# Altium integrated library Vishay Roederstein Electrolytic Snap-In Pins Capacitor.IntLib: 936 symbols (part 11 of 16)
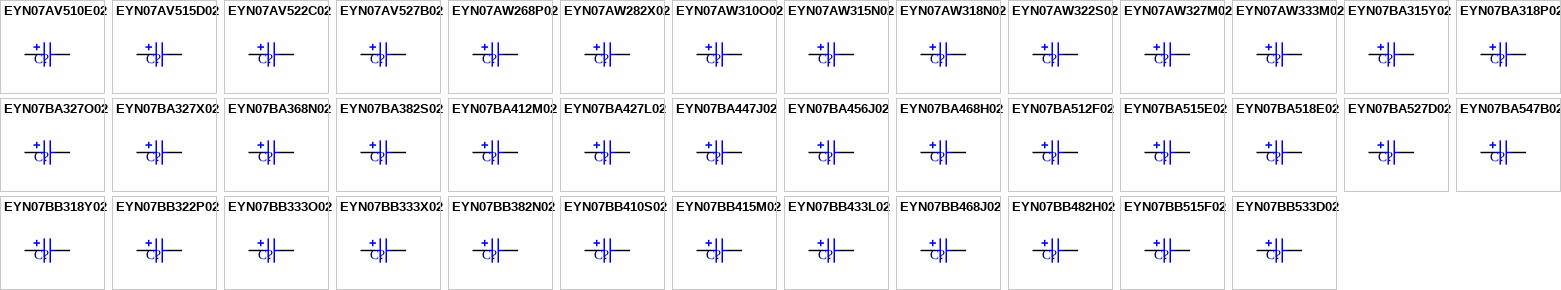
[diagram p33: symbols EYN07AV510E02 to EYN07BB533D02]

## EYN07AV515D02
designator C?
Aluminum Electrolytic Capacitor, Power Capacitor Style EYN, Snap-in 6mm Solder Pins: 15000uF, 16V; PCB_Layout: Complies with Manufacturer's Recommendation.; DrillSize: Nominal, Complies with Manufacturer's Recommendation.; Published: 19-Mar-2004; DatasheetDocument: 4-Feb-2002; PackageReference: CAPPRS10-25X30; Publisher: Altium Limited; ComponentLink1Description: Manufacturer Link; ComponentLink1URL: http://www.vishay.com/; ComponentLink2Description: Datasheet; ComponentLink2URL: http://www.vishay.com/docs/25137/eyn.pdf; Value: 15000uF
footprint CAPPRS10-25X30 (Capacitor, Electrolytic, Radial, Snap-In Pins; Body 25 x 30 mm (Dia.xH typ); Pin Spacing 10 mm (typ))
simulation model CAP (Capacitor)
signal-integrity model EYN07AV515D02
pins: 1, 2
1 alternate drawing of the same symbol

## EYN07AV522C02
designator C?
Aluminum Electrolytic Capacitor, Power Capacitor Style EYN, Snap-in 6mm Solder Pins: 22000uF, 10V; PCB_Layout: Complies with Manufacturer's Recommendation.; DrillSize: Nominal, Complies with Manufacturer's Recommendation.; Published: 19-Mar-2004; DatasheetDocument: 4-Feb-2002; PackageReference: CAPPRS10-25X30; Publisher: Altium Limited; ComponentLink1Description: Manufacturer Link; ComponentLink1URL: http://www.vishay.com/; ComponentLink2Description: Datasheet; ComponentLink2URL: http://www.vishay.com/docs/25137/eyn.pdf; Value: 22000uF
footprint CAPPRS10-25X30 (Capacitor, Electrolytic, Radial, Snap-In Pins; Body 25 x 30 mm (Dia.xH typ); Pin Spacing 10 mm (typ))
simulation model CAP (Capacitor)
signal-integrity model EYN07AV522C02
pins: 1, 2
1 alternate drawing of the same symbol

## EYN07AV527B02
designator C?
Aluminum Electrolytic Capacitor, Power Capacitor Style EYN, Snap-in 6mm Solder Pins: 27000uF, 6.3V; PCB_Layout: Complies with Manufacturer's Recommendation.; DrillSize: Nominal, Complies with Manufacturer's Recommendation.; Published: 19-Mar-2004; DatasheetDocument: 4-Feb-2002; PackageReference: CAPPRS10-25X30; Publisher: Altium Limited; ComponentLink1Description: Manufacturer Link; ComponentLink1URL: http://www.vishay.com/; ComponentLink2Description: Datasheet; ComponentLink2URL: http://www.vishay.com/docs/25137/eyn.pdf; Value: 27000uF
footprint CAPPRS10-25X30 (Capacitor, Electrolytic, Radial, Snap-In Pins; Body 25 x 30 mm (Dia.xH typ); Pin Spacing 10 mm (typ))
simulation model CAP (Capacitor)
signal-integrity model EYN07AV527B02
pins: 1, 2
1 alternate drawing of the same symbol

## EYN07AW268P02
designator C?
Aluminum Electrolytic Capacitor, Power Capacitor Style EYN, Snap-in 6mm Solder Pins: 68uF, 450V; PCB_Layout: Complies with Manufacturer's Recommendation.; DrillSize: Nominal, Complies with Manufacturer's Recommendation.; Published: 19-Mar-2004; DatasheetDocument: 4-Feb-2002; PackageReference: CAPPRS10-25X20; Publisher: Altium Limited; ComponentLink1Description: Manufacturer Link; ComponentLink1URL: http://www.vishay.com/; ComponentLink2Description: Datasheet; ComponentLink2URL: http://www.vishay.com/docs/25137/eyn.pdf; Value: 68uF
footprint CAPPRS10-25X20 (Capacitor, Electrolytic, Radial, Snap-In Pins; Body 25 x 20 mm (Dia.xH typ); Pin Spacing 10 mm (typ))
simulation model CAP (Capacitor)
signal-integrity model EYN07AW268P02
pins: 1, 2
1 alternate drawing of the same symbol

## EYN07AW282X02
designator C?
Aluminum Electrolytic Capacitor, Power Capacitor Style EYN, Snap-in 6mm Solder Pins: 82uF, 400V; PCB_Layout: Complies with Manufacturer's Recommendation.; DrillSize: Nominal, Complies with Manufacturer's Recommendation.; Published: 19-Mar-2004; DatasheetDocument: 4-Feb-2002; PackageReference: CAPPRS10-25X20; Publisher: Altium Limited; ComponentLink1Description: Manufacturer Link; ComponentLink1URL: http://www.vishay.com/; ComponentLink2Description: Datasheet; ComponentLink2URL: http://www.vishay.com/docs/25137/eyn.pdf; Value: 82uF
footprint CAPPRS10-25X20 (Capacitor, Electrolytic, Radial, Snap-In Pins; Body 25 x 20 mm (Dia.xH typ); Pin Spacing 10 mm (typ))
simulation model CAP (Capacitor)
signal-integrity model EYN07AW282X02
pins: 1, 2
1 alternate drawing of the same symbol

## EYN07AW310O02
designator C?
Aluminum Electrolytic Capacitor, Power Capacitor Style EYN, Snap-in 6mm Solder Pins: 100uF, 350V; PCB_Layout: Complies with Manufacturer's Recommendation.; DrillSize: Nominal, Complies with Manufacturer's Recommendation.; Published: 19-Mar-2004; DatasheetDocument: 4-Feb-2002; PackageReference: CAPPRS10-25X20; Publisher: Altium Limited; ComponentLink1Description: Manufacturer Link; ComponentLink1URL: http://www.vishay.com/; ComponentLink2Description: Datasheet; ComponentLink2URL: http://www.vishay.com/docs/25137/eyn.pdf; Value: 100uF
footprint CAPPRS10-25X20 (Capacitor, Electrolytic, Radial, Snap-In Pins; Body 25 x 20 mm (Dia.xH typ); Pin Spacing 10 mm (typ))
simulation model CAP (Capacitor)
signal-integrity model EYN07AW310O02
pins: 1, 2
1 alternate drawing of the same symbol

## EYN07AW315N02
designator C?
Aluminum Electrolytic Capacitor, Power Capacitor Style EYN, Snap-in 6mm Solder Pins: 150uF, 250V; PCB_Layout: Complies with Manufacturer's Recommendation.; DrillSize: Nominal, Complies with Manufacturer's Recommendation.; Published: 19-Mar-2004; DatasheetDocument: 4-Feb-2002; PackageReference: CAPPRS10-25X20; Publisher: Altium Limited; ComponentLink1Description: Manufacturer Link; ComponentLink1URL: http://www.vishay.com/; ComponentLink2Description: Datasheet; ComponentLink2URL: http://www.vishay.com/docs/25137/eyn.pdf; Value: 150uF
footprint CAPPRS10-25X20 (Capacitor, Electrolytic, Radial, Snap-In Pins; Body 25 x 20 mm (Dia.xH typ); Pin Spacing 10 mm (typ))
simulation model CAP (Capacitor)
signal-integrity model EYN07AW315N02
pins: 1, 2
1 alternate drawing of the same symbol

## EYN07AW318N02
designator C?
Aluminum Electrolytic Capacitor, Power Capacitor Style EYN, Snap-in 6mm Solder Pins: 180uF, 250V; PCB_Layout: Complies with Manufacturer's Recommendation.; DrillSize: Nominal, Complies with Manufacturer's Recommendation.; Published: 19-Mar-2004; DatasheetDocument: 4-Feb-2002; PackageReference: CAPPRS10-25X20; Publisher: Altium Limited; ComponentLink1Description: Manufacturer Link; ComponentLink1URL: http://www.vishay.com/; ComponentLink2Description: Datasheet; ComponentLink2URL: http://www.vishay.com/docs/25137/eyn.pdf; Value: 180uF
footprint CAPPRS10-25X20 (Capacitor, Electrolytic, Radial, Snap-In Pins; Body 25 x 20 mm (Dia.xH typ); Pin Spacing 10 mm (typ))
simulation model CAP (Capacitor)
signal-integrity model EYN07AW318N02
pins: 1, 2
1 alternate drawing of the same symbol

## EYN07AW322S02
designator C?
Aluminum Electrolytic Capacitor, Power Capacitor Style EYN, Snap-in 6mm Solder Pins: 220uF, 200V; PCB_Layout: Complies with Manufacturer's Recommendation.; DrillSize: Nominal, Complies with Manufacturer's Recommendation.; Published: 19-Mar-2004; DatasheetDocument: 4-Feb-2002; PackageReference: CAPPRS10-25X20; Publisher: Altium Limited; ComponentLink1Description: Manufacturer Link; ComponentLink1URL: http://www.vishay.com/; ComponentLink2Description: Datasheet; ComponentLink2URL: http://www.vishay.com/docs/25137/eyn.pdf; Value: 220uF
footprint CAPPRS10-25X20 (Capacitor, Electrolytic, Radial, Snap-In Pins; Body 25 x 20 mm (Dia.xH typ); Pin Spacing 10 mm (typ))
simulation model CAP (Capacitor)
signal-integrity model EYN07AW322S02
pins: 1, 2
1 alternate drawing of the same symbol

## EYN07AW327M02
designator C?
Aluminum Electrolytic Capacitor, Power Capacitor Style EYN, Snap-in 6mm Solder Pins: 270uF, 160V; PCB_Layout: Complies with Manufacturer's Recommendation.; DrillSize: Nominal, Complies with Manufacturer's Recommendation.; Published: 19-Mar-2004; DatasheetDocument: 4-Feb-2002; PackageReference: CAPPRS10-25X20; Publisher: Altium Limited; ComponentLink1Description: Manufacturer Link; ComponentLink1URL: http://www.vishay.com/; ComponentLink2Description: Datasheet; ComponentLink2URL: http://www.vishay.com/docs/25137/eyn.pdf; Value: 270uF
footprint CAPPRS10-25X20 (Capacitor, Electrolytic, Radial, Snap-In Pins; Body 25 x 20 mm (Dia.xH typ); Pin Spacing 10 mm (typ))
simulation model CAP (Capacitor)
signal-integrity model EYN07AW327M02
pins: 1, 2
1 alternate drawing of the same symbol

## EYN07AW333M02
designator C?
Aluminum Electrolytic Capacitor, Power Capacitor Style EYN, Snap-in 6mm Solder Pins: 330uF, 160V; PCB_Layout: Complies with Manufacturer's Recommendation.; DrillSize: Nominal, Complies with Manufacturer's Recommendation.; Published: 19-Mar-2004; DatasheetDocument: 4-Feb-2002; PackageReference: CAPPRS10-25X20; Publisher: Altium Limited; ComponentLink1Description: Manufacturer Link; ComponentLink1URL: http://www.vishay.com/; ComponentLink2Description: Datasheet; ComponentLink2URL: http://www.vishay.com/docs/25137/eyn.pdf; Value: 330uF
footprint CAPPRS10-25X20 (Capacitor, Electrolytic, Radial, Snap-In Pins; Body 25 x 20 mm (Dia.xH typ); Pin Spacing 10 mm (typ))
simulation model CAP (Capacitor)
signal-integrity model EYN07AW333M02
pins: 1, 2
1 alternate drawing of the same symbol

## EYN07BA315Y02
designator C?
Aluminum Electrolytic Capacitor, Power Capacitor Style EYN, Snap-in 6mm Solder Pins: 150uF, 500V; PCB_Layout: Complies with Manufacturer's Recommendation.; DrillSize: Nominal, Complies with Manufacturer's Recommendation.; Published: 19-Mar-2004; DatasheetDocument: 4-Feb-2002; PackageReference: CAPPRS10-30X35; Publisher: Altium Limited; ComponentLink1Description: Manufacturer Link; ComponentLink1URL: http://www.vishay.com/; ComponentLink2Description: Datasheet; ComponentLink2URL: http://www.vishay.com/docs/25137/eyn.pdf; Value: 150uF
footprint CAPPRS10-30X35 (Capacitor, Electrolytic, Radial, Snap-In Pins; Body 30 x 35 mm (Dia.xH typ); Pin Spacing 10 mm (typ))
simulation model CAP (Capacitor)
signal-integrity model EYN07BA315Y02
pins: 1, 2
1 alternate drawing of the same symbol

## EYN07BA318P02
designator C?
Aluminum Electrolytic Capacitor, Power Capacitor Style EYN, Snap-in 6mm Solder Pins: 180uF, 450V; PCB_Layout: Complies with Manufacturer's Recommendation.; DrillSize: Nominal, Complies with Manufacturer's Recommendation.; Published: 19-Mar-2004; DatasheetDocument: 4-Feb-2002; PackageReference: CAPPRS10-30X35; Publisher: Altium Limited; ComponentLink1Description: Manufacturer Link; ComponentLink1URL: http://www.vishay.com/; ComponentLink2Description: Datasheet; ComponentLink2URL: http://www.vishay.com/docs/25137/eyn.pdf; Value: 180uF
footprint CAPPRS10-30X35 (Capacitor, Electrolytic, Radial, Snap-In Pins; Body 30 x 35 mm (Dia.xH typ); Pin Spacing 10 mm (typ))
simulation model CAP (Capacitor)
signal-integrity model EYN07BA318P02
pins: 1, 2
1 alternate drawing of the same symbol

## EYN07BA327O02
designator C?
Aluminum Electrolytic Capacitor, Power Capacitor Style EYN, Snap-in 6mm Solder Pins: 270uF, 350V; PCB_Layout: Complies with Manufacturer's Recommendation.; DrillSize: Nominal, Complies with Manufacturer's Recommendation.; Published: 19-Mar-2004; DatasheetDocument: 4-Feb-2002; PackageReference: CAPPRS10-30X35; Publisher: Altium Limited; ComponentLink1Description: Manufacturer Link; ComponentLink1URL: http://www.vishay.com/; ComponentLink2Description: Datasheet; ComponentLink2URL: http://www.vishay.com/docs/25137/eyn.pdf; Value: 270uF
footprint CAPPRS10-30X35 (Capacitor, Electrolytic, Radial, Snap-In Pins; Body 30 x 35 mm (Dia.xH typ); Pin Spacing 10 mm (typ))
simulation model CAP (Capacitor)
signal-integrity model EYN07BA327O02
pins: 1, 2
1 alternate drawing of the same symbol

## EYN07BA327X02
designator C?
Aluminum Electrolytic Capacitor, Power Capacitor Style EYN, Snap-in 6mm Solder Pins: 270uF, 400V; PCB_Layout: Complies with Manufacturer's Recommendation.; DrillSize: Nominal, Complies with Manufacturer's Recommendation.; Published: 19-Mar-2004; DatasheetDocument: 4-Feb-2002; PackageReference: CAPPRS10-30X35; Publisher: Altium Limited; ComponentLink1Description: Manufacturer Link; ComponentLink1URL: http://www.vishay.com/; ComponentLink2Description: Datasheet; ComponentLink2URL: http://www.vishay.com/docs/25137/eyn.pdf; Value: 270uF
footprint CAPPRS10-30X35 (Capacitor, Electrolytic, Radial, Snap-In Pins; Body 30 x 35 mm (Dia.xH typ); Pin Spacing 10 mm (typ))
simulation model CAP (Capacitor)
signal-integrity model EYN07BA327X02
pins: 1, 2
1 alternate drawing of the same symbol

## EYN07BA368N02
designator C?
Aluminum Electrolytic Capacitor, Power Capacitor Style EYN, Snap-in 6mm Solder Pins: 680uF, 250V; PCB_Layout: Complies with Manufacturer's Recommendation.; DrillSize: Nominal, Complies with Manufacturer's Recommendation.; Published: 19-Mar-2004; DatasheetDocument: 4-Feb-2002; PackageReference: CAPPRS10-30X35; Publisher: Altium Limited; ComponentLink1Description: Manufacturer Link; ComponentLink1URL: http://www.vishay.com/; ComponentLink2Description: Datasheet; ComponentLink2URL: http://www.vishay.com/docs/25137/eyn.pdf; Value: 680uF
footprint CAPPRS10-30X35 (Capacitor, Electrolytic, Radial, Snap-In Pins; Body 30 x 35 mm (Dia.xH typ); Pin Spacing 10 mm (typ))
simulation model CAP (Capacitor)
signal-integrity model EYN07BA368N02
pins: 1, 2
1 alternate drawing of the same symbol

## EYN07BA382S02
designator C?
Aluminum Electrolytic Capacitor, Power Capacitor Style EYN, Snap-in 6mm Solder Pins: 820uF, 200V; PCB_Layout: Complies with Manufacturer's Recommendation.; DrillSize: Nominal, Complies with Manufacturer's Recommendation.; Published: 19-Mar-2004; DatasheetDocument: 4-Feb-2002; PackageReference: CAPPRS10-30X35; Publisher: Altium Limited; ComponentLink1Description: Manufacturer Link; ComponentLink1URL: http://www.vishay.com/; ComponentLink2Description: Datasheet; ComponentLink2URL: http://www.vishay.com/docs/25137/eyn.pdf; Value: 820uF
footprint CAPPRS10-30X35 (Capacitor, Electrolytic, Radial, Snap-In Pins; Body 30 x 35 mm (Dia.xH typ); Pin Spacing 10 mm (typ))
simulation model CAP (Capacitor)
signal-integrity model EYN07BA382S02
pins: 1, 2
1 alternate drawing of the same symbol

## EYN07BA412M02
designator C?
Aluminum Electrolytic Capacitor, Power Capacitor Style EYN, Snap-in 6mm Solder Pins: 1200uF, 160V; PCB_Layout: Complies with Manufacturer's Recommendation.; DrillSize: Nominal, Complies with Manufacturer's Recommendation.; Published: 19-Mar-2004; DatasheetDocument: 4-Feb-2002; PackageReference: CAPPRS10-30X35; Publisher: Altium Limited; ComponentLink1Description: Manufacturer Link; ComponentLink1URL: http://www.vishay.com/; ComponentLink2Description: Datasheet; ComponentLink2URL: http://www.vishay.com/docs/25137/eyn.pdf; Value: 1200uF
footprint CAPPRS10-30X35 (Capacitor, Electrolytic, Radial, Snap-In Pins; Body 30 x 35 mm (Dia.xH typ); Pin Spacing 10 mm (typ))
simulation model CAP (Capacitor)
signal-integrity model EYN07BA412M02
pins: 1, 2
1 alternate drawing of the same symbol

## EYN07BA427L02
designator C?
Aluminum Electrolytic Capacitor, Power Capacitor Style EYN, Snap-in 6mm Solder Pins: 2700uF, 100V; PCB_Layout: Complies with Manufacturer's Recommendation.; DrillSize: Nominal, Complies with Manufacturer's Recommendation.; Published: 19-Mar-2004; DatasheetDocument: 4-Feb-2002; PackageReference: CAPPRS10-30X35; Publisher: Altium Limited; ComponentLink1Description: Manufacturer Link; ComponentLink1URL: http://www.vishay.com/; ComponentLink2Description: Datasheet; ComponentLink2URL: http://www.vishay.com/docs/25137/eyn.pdf; Value: 2700uF
footprint CAPPRS10-30X35 (Capacitor, Electrolytic, Radial, Snap-In Pins; Body 30 x 35 mm (Dia.xH typ); Pin Spacing 10 mm (typ))
simulation model CAP (Capacitor)
signal-integrity model EYN07BA427L02
pins: 1, 2
1 alternate drawing of the same symbol

## EYN07BA447J02
designator C?
Aluminum Electrolytic Capacitor, Power Capacitor Style EYN, Snap-in 6mm Solder Pins: 4700uF, 63V; PCB_Layout: Complies with Manufacturer's Recommendation.; DrillSize: Nominal, Complies with Manufacturer's Recommendation.; Published: 19-Mar-2004; DatasheetDocument: 4-Feb-2002; PackageReference: CAPPRS10-30X35; Publisher: Altium Limited; ComponentLink1Description: Manufacturer Link; ComponentLink1URL: http://www.vishay.com/; ComponentLink2Description: Datasheet; ComponentLink2URL: http://www.vishay.com/docs/25137/eyn.pdf; Value: 4700uF
footprint CAPPRS10-30X35 (Capacitor, Electrolytic, Radial, Snap-In Pins; Body 30 x 35 mm (Dia.xH typ); Pin Spacing 10 mm (typ))
simulation model CAP (Capacitor)
signal-integrity model EYN07BA447J02
pins: 1, 2
1 alternate drawing of the same symbol

## EYN07BA456J02
designator C?
Aluminum Electrolytic Capacitor, Power Capacitor Style EYN, Snap-in 6mm Solder Pins: 5600uF, 63V; PCB_Layout: Complies with Manufacturer's Recommendation.; DrillSize: Nominal, Complies with Manufacturer's Recommendation.; Published: 19-Mar-2004; DatasheetDocument: 4-Feb-2002; PackageReference: CAPPRS10-30X35; Publisher: Altium Limited; ComponentLink1Description: Manufacturer Link; ComponentLink1URL: http://www.vishay.com/; ComponentLink2Description: Datasheet; ComponentLink2URL: http://www.vishay.com/docs/25137/eyn.pdf; Value: 5600uF
footprint CAPPRS10-30X35 (Capacitor, Electrolytic, Radial, Snap-In Pins; Body 30 x 35 mm (Dia.xH typ); Pin Spacing 10 mm (typ))
simulation model CAP (Capacitor)
signal-integrity model EYN07BA456J02
pins: 1, 2
1 alternate drawing of the same symbol

## EYN07BA468H02
designator C?
Aluminum Electrolytic Capacitor, Power Capacitor Style EYN, Snap-in 6mm Solder Pins: 6800uF, 50V; PCB_Layout: Complies with Manufacturer's Recommendation.; DrillSize: Nominal, Complies with Manufacturer's Recommendation.; Published: 19-Mar-2004; DatasheetDocument: 4-Feb-2002; PackageReference: CAPPRS10-30X35; Publisher: Altium Limited; ComponentLink1Description: Manufacturer Link; ComponentLink1URL: http://www.vishay.com/; ComponentLink2Description: Datasheet; ComponentLink2URL: http://www.vishay.com/docs/25137/eyn.pdf; Value: 6800uF
footprint CAPPRS10-30X35 (Capacitor, Electrolytic, Radial, Snap-In Pins; Body 30 x 35 mm (Dia.xH typ); Pin Spacing 10 mm (typ))
simulation model CAP (Capacitor)
signal-integrity model EYN07BA468H02
pins: 1, 2
1 alternate drawing of the same symbol

## EYN07BA512F02
designator C?
Aluminum Electrolytic Capacitor, Power Capacitor Style EYN, Snap-in 6mm Solder Pins: 12000uF, 35V; PCB_Layout: Complies with Manufacturer's Recommendation.; DrillSize: Nominal, Complies with Manufacturer's Recommendation.; Published: 19-Mar-2004; DatasheetDocument: 4-Feb-2002; PackageReference: CAPPRS10-30X35; Publisher: Altium Limited; ComponentLink1Description: Manufacturer Link; ComponentLink1URL: http://www.vishay.com/; ComponentLink2Description: Datasheet; ComponentLink2URL: http://www.vishay.com/docs/25137/eyn.pdf; Value: 12000uF
footprint CAPPRS10-30X35 (Capacitor, Electrolytic, Radial, Snap-In Pins; Body 30 x 35 mm (Dia.xH typ); Pin Spacing 10 mm (typ))
simulation model CAP (Capacitor)
signal-integrity model EYN07BA512F02
pins: 1, 2
1 alternate drawing of the same symbol

## EYN07BA515E02
designator C?
Aluminum Electrolytic Capacitor, Power Capacitor Style EYN, Snap-in 6mm Solder Pins: 15000uF, 25V; PCB_Layout: Complies with Manufacturer's Recommendation.; DrillSize: Nominal, Complies with Manufacturer's Recommendation.; Published: 19-Mar-2004; DatasheetDocument: 4-Feb-2002; PackageReference: CAPPRS10-30X35; Publisher: Altium Limited; ComponentLink1Description: Manufacturer Link; ComponentLink1URL: http://www.vishay.com/; ComponentLink2Description: Datasheet; ComponentLink2URL: http://www.vishay.com/docs/25137/eyn.pdf; Value: 15000uF
footprint CAPPRS10-30X35 (Capacitor, Electrolytic, Radial, Snap-In Pins; Body 30 x 35 mm (Dia.xH typ); Pin Spacing 10 mm (typ))
simulation model CAP (Capacitor)
signal-integrity model EYN07BA515E02
pins: 1, 2
1 alternate drawing of the same symbol

## EYN07BA518E02
designator C?
Aluminum Electrolytic Capacitor, Power Capacitor Style EYN, Snap-in 6mm Solder Pins: 18000uF, 25V; PCB_Layout: Complies with Manufacturer's Recommendation.; DrillSize: Nominal, Complies with Manufacturer's Recommendation.; Published: 19-Mar-2004; DatasheetDocument: 4-Feb-2002; PackageReference: CAPPRS10-30X35; Publisher: Altium Limited; ComponentLink1Description: Manufacturer Link; ComponentLink1URL: http://www.vishay.com/; ComponentLink2Description: Datasheet; ComponentLink2URL: http://www.vishay.com/docs/25137/eyn.pdf; Value: 18000uF
footprint CAPPRS10-30X35 (Capacitor, Electrolytic, Radial, Snap-In Pins; Body 30 x 35 mm (Dia.xH typ); Pin Spacing 10 mm (typ))
simulation model CAP (Capacitor)
signal-integrity model EYN07BA518E02
pins: 1, 2
1 alternate drawing of the same symbol

## EYN07BA527D02
designator C?
Aluminum Electrolytic Capacitor, Power Capacitor Style EYN, Snap-in 6mm Solder Pins: 27000uF, 16V; PCB_Layout: Complies with Manufacturer's Recommendation.; DrillSize: Nominal, Complies with Manufacturer's Recommendation.; Published: 19-Mar-2004; DatasheetDocument: 4-Feb-2002; PackageReference: CAPPRS10-30X35; Publisher: Altium Limited; ComponentLink1Description: Manufacturer Link; ComponentLink1URL: http://www.vishay.com/; ComponentLink2Description: Datasheet; ComponentLink2URL: http://www.vishay.com/docs/25137/eyn.pdf; Value: 27000uF
footprint CAPPRS10-30X35 (Capacitor, Electrolytic, Radial, Snap-In Pins; Body 30 x 35 mm (Dia.xH typ); Pin Spacing 10 mm (typ))
simulation model CAP (Capacitor)
signal-integrity model EYN07BA527D02
pins: 1, 2
1 alternate drawing of the same symbol

## EYN07BA547B02
designator C?
Aluminum Electrolytic Capacitor, Power Capacitor Style EYN, Snap-in 6mm Solder Pins: 47000uF, 6.3V; PCB_Layout: Complies with Manufacturer's Recommendation.; DrillSize: Nominal, Complies with Manufacturer's Recommendation.; Published: 19-Mar-2004; DatasheetDocument: 4-Feb-2002; PackageReference: CAPPRS10-30X35; Publisher: Altium Limited; ComponentLink1Description: Manufacturer Link; ComponentLink1URL: http://www.vishay.com/; ComponentLink2Description: Datasheet; ComponentLink2URL: http://www.vishay.com/docs/25137/eyn.pdf; Value: 47000uF
footprint CAPPRS10-30X35 (Capacitor, Electrolytic, Radial, Snap-In Pins; Body 30 x 35 mm (Dia.xH typ); Pin Spacing 10 mm (typ))
simulation model CAP (Capacitor)
signal-integrity model EYN07BA547B02
pins: 1, 2
1 alternate drawing of the same symbol

## EYN07BB318Y02
designator C?
Aluminum Electrolytic Capacitor, Power Capacitor Style EYN, Snap-in 6mm Solder Pins: 180uF, 500V; PCB_Layout: Complies with Manufacturer's Recommendation.; DrillSize: Nominal, Complies with Manufacturer's Recommendation.; Published: 19-Mar-2004; DatasheetDocument: 4-Feb-2002; PackageReference: CAPPRS10-30X40; Publisher: Altium Limited; ComponentLink1Description: Manufacturer Link; ComponentLink1URL: http://www.vishay.com/; ComponentLink2Description: Datasheet; ComponentLink2URL: http://www.vishay.com/docs/25137/eyn.pdf; Value: 180uF
footprint CAPPRS10-30X40 (Capacitor, Electrolytic, Radial, Snap-In Pins; Body 30 x 40 mm (Dia.xH typ); Pin Spacing 10 mm (typ))
simulation model CAP (Capacitor)
signal-integrity model EYN07BB318Y02
pins: 1, 2
1 alternate drawing of the same symbol

## EYN07BB322P02
designator C?
Aluminum Electrolytic Capacitor, Power Capacitor Style EYN, Snap-in 6mm Solder Pins: 220uF, 450V; PCB_Layout: Complies with Manufacturer's Recommendation.; DrillSize: Nominal, Complies with Manufacturer's Recommendation.; Published: 19-Mar-2004; DatasheetDocument: 4-Feb-2002; PackageReference: CAPPRS10-30X40; Publisher: Altium Limited; ComponentLink1Description: Manufacturer Link; ComponentLink1URL: http://www.vishay.com/; ComponentLink2Description: Datasheet; ComponentLink2URL: http://www.vishay.com/docs/25137/eyn.pdf; Value: 220uF
footprint CAPPRS10-30X40 (Capacitor, Electrolytic, Radial, Snap-In Pins; Body 30 x 40 mm (Dia.xH typ); Pin Spacing 10 mm (typ))
simulation model CAP (Capacitor)
signal-integrity model EYN07BB322P02
pins: 1, 2
1 alternate drawing of the same symbol

## EYN07BB333O02
designator C?
Aluminum Electrolytic Capacitor, Power Capacitor Style EYN, Snap-in 6mm Solder Pins: 330uF, 350V; PCB_Layout: Complies with Manufacturer's Recommendation.; DrillSize: Nominal, Complies with Manufacturer's Recommendation.; Published: 19-Mar-2004; DatasheetDocument: 4-Feb-2002; PackageReference: CAPPRS10-30X40; Publisher: Altium Limited; ComponentLink1Description: Manufacturer Link; ComponentLink1URL: http://www.vishay.com/; ComponentLink2Description: Datasheet; ComponentLink2URL: http://www.vishay.com/docs/25137/eyn.pdf; Value: 330uF
footprint CAPPRS10-30X40 (Capacitor, Electrolytic, Radial, Snap-In Pins; Body 30 x 40 mm (Dia.xH typ); Pin Spacing 10 mm (typ))
simulation model CAP (Capacitor)
signal-integrity model EYN07BB333O02
pins: 1, 2
1 alternate drawing of the same symbol

## EYN07BB333X02
designator C?
Aluminum Electrolytic Capacitor, Power Capacitor Style EYN, Snap-in 6mm Solder Pins: 330uF, 400V; PCB_Layout: Complies with Manufacturer's Recommendation.; DrillSize: Nominal, Complies with Manufacturer's Recommendation.; Published: 19-Mar-2004; DatasheetDocument: 4-Feb-2002; PackageReference: CAPPRS10-30X40; Publisher: Altium Limited; ComponentLink1Description: Manufacturer Link; ComponentLink1URL: http://www.vishay.com/; ComponentLink2Description: Datasheet; ComponentLink2URL: http://www.vishay.com/docs/25137/eyn.pdf; Value: 330uF
footprint CAPPRS10-30X40 (Capacitor, Electrolytic, Radial, Snap-In Pins; Body 30 x 40 mm (Dia.xH typ); Pin Spacing 10 mm (typ))
simulation model CAP (Capacitor)
signal-integrity model EYN07BB333X02
pins: 1, 2
1 alternate drawing of the same symbol

## EYN07BB382N02
designator C?
Aluminum Electrolytic Capacitor, Power Capacitor Style EYN, Snap-in 6mm Solder Pins: 820uF, 250V; PCB_Layout: Complies with Manufacturer's Recommendation.; DrillSize: Nominal, Complies with Manufacturer's Recommendation.; Published: 19-Mar-2004; DatasheetDocument: 4-Feb-2002; PackageReference: CAPPRS10-30X40; Publisher: Altium Limited; ComponentLink1Description: Manufacturer Link; ComponentLink1URL: http://www.vishay.com/; ComponentLink2Description: Datasheet; ComponentLink2URL: http://www.vishay.com/docs/25137/eyn.pdf; Value: 820uF
footprint CAPPRS10-30X40 (Capacitor, Electrolytic, Radial, Snap-In Pins; Body 30 x 40 mm (Dia.xH typ); Pin Spacing 10 mm (typ))
simulation model CAP (Capacitor)
signal-integrity model EYN07BB382N02
pins: 1, 2
1 alternate drawing of the same symbol

## EYN07BB410S02
designator C?
Aluminum Electrolytic Capacitor, Power Capacitor Style EYN, Snap-in 6mm Solder Pins: 1000uF, 200V; PCB_Layout: Complies with Manufacturer's Recommendation.; DrillSize: Nominal, Complies with Manufacturer's Recommendation.; Published: 19-Mar-2004; DatasheetDocument: 4-Feb-2002; PackageReference: CAPPRS10-30X40; Publisher: Altium Limited; ComponentLink1Description: Manufacturer Link; ComponentLink1URL: http://www.vishay.com/; ComponentLink2Description: Datasheet; ComponentLink2URL: http://www.vishay.com/docs/25137/eyn.pdf; Value: 1000uF
footprint CAPPRS10-30X40 (Capacitor, Electrolytic, Radial, Snap-In Pins; Body 30 x 40 mm (Dia.xH typ); Pin Spacing 10 mm (typ))
simulation model CAP (Capacitor)
signal-integrity model EYN07BB410S02
pins: 1, 2
1 alternate drawing of the same symbol

## EYN07BB415M02
designator C?
Aluminum Electrolytic Capacitor, Power Capacitor Style EYN, Snap-in 6mm Solder Pins: 1500uF, 160V; PCB_Layout: Complies with Manufacturer's Recommendation.; DrillSize: Nominal, Complies with Manufacturer's Recommendation.; Published: 19-Mar-2004; DatasheetDocument: 4-Feb-2002; PackageReference: CAPPRS10-30X40; Publisher: Altium Limited; ComponentLink1Description: Manufacturer Link; ComponentLink1URL: http://www.vishay.com/; ComponentLink2Description: Datasheet; ComponentLink2URL: http://www.vishay.com/docs/25137/eyn.pdf; Value: 1500uF
footprint CAPPRS10-30X40 (Capacitor, Electrolytic, Radial, Snap-In Pins; Body 30 x 40 mm (Dia.xH typ); Pin Spacing 10 mm (typ))
simulation model CAP (Capacitor)
signal-integrity model EYN07BB415M02
pins: 1, 2
1 alternate drawing of the same symbol

## EYN07BB433L02
designator C?
Aluminum Electrolytic Capacitor, Power Capacitor Style EYN, Snap-in 6mm Solder Pins: 3300uF, 100V; PCB_Layout: Complies with Manufacturer's Recommendation.; DrillSize: Nominal, Complies with Manufacturer's Recommendation.; Published: 19-Mar-2004; DatasheetDocument: 4-Feb-2002; PackageReference: CAPPRS10-30X40; Publisher: Altium Limited; ComponentLink1Description: Manufacturer Link; ComponentLink1URL: http://www.vishay.com/; ComponentLink2Description: Datasheet; ComponentLink2URL: http://www.vishay.com/docs/25137/eyn.pdf; Value: 3300uF
footprint CAPPRS10-30X40 (Capacitor, Electrolytic, Radial, Snap-In Pins; Body 30 x 40 mm (Dia.xH typ); Pin Spacing 10 mm (typ))
simulation model CAP (Capacitor)
signal-integrity model EYN07BB433L02
pins: 1, 2
1 alternate drawing of the same symbol

## EYN07BB468J02
designator C?
Aluminum Electrolytic Capacitor, Power Capacitor Style EYN, Snap-in 6mm Solder Pins: 6800uF, 63V; PCB_Layout: Complies with Manufacturer's Recommendation.; DrillSize: Nominal, Complies with Manufacturer's Recommendation.; Published: 19-Mar-2004; DatasheetDocument: 4-Feb-2002; PackageReference: CAPPRS10-30X40; Publisher: Altium Limited; ComponentLink1Description: Manufacturer Link; ComponentLink1URL: http://www.vishay.com/; ComponentLink2Description: Datasheet; ComponentLink2URL: http://www.vishay.com/docs/25137/eyn.pdf; Value: 6800uF
footprint CAPPRS10-30X40 (Capacitor, Electrolytic, Radial, Snap-In Pins; Body 30 x 40 mm (Dia.xH typ); Pin Spacing 10 mm (typ))
simulation model CAP (Capacitor)
signal-integrity model EYN07BB468J02
pins: 1, 2
1 alternate drawing of the same symbol

## EYN07BB482H02
designator C?
Aluminum Electrolytic Capacitor, Power Capacitor Style EYN, Snap-in 6mm Solder Pins: 8200uF, 50V; PCB_Layout: Complies with Manufacturer's Recommendation.; DrillSize: Nominal, Complies with Manufacturer's Recommendation.; Published: 19-Mar-2004; DatasheetDocument: 4-Feb-2002; PackageReference: CAPPRS10-30X40; Publisher: Altium Limited; ComponentLink1Description: Manufacturer Link; ComponentLink1URL: http://www.vishay.com/; ComponentLink2Description: Datasheet; ComponentLink2URL: http://www.vishay.com/docs/25137/eyn.pdf; Value: 8200uF
footprint CAPPRS10-30X40 (Capacitor, Electrolytic, Radial, Snap-In Pins; Body 30 x 40 mm (Dia.xH typ); Pin Spacing 10 mm (typ))
simulation model CAP (Capacitor)
signal-integrity model EYN07BB482H02
pins: 1, 2
1 alternate drawing of the same symbol

## EYN07BB515F02
designator C?
Aluminum Electrolytic Capacitor, Power Capacitor Style EYN, Snap-in 6mm Solder Pins: 15000uF, 35V; PCB_Layout: Complies with Manufacturer's Recommendation.; DrillSize: Nominal, Complies with Manufacturer's Recommendation.; Published: 19-Mar-2004; DatasheetDocument: 4-Feb-2002; PackageReference: CAPPRS10-30X40; Publisher: Altium Limited; ComponentLink1Description: Manufacturer Link; ComponentLink1URL: http://www.vishay.com/; ComponentLink2Description: Datasheet; ComponentLink2URL: http://www.vishay.com/docs/25137/eyn.pdf; Value: 15000uF
footprint CAPPRS10-30X40 (Capacitor, Electrolytic, Radial, Snap-In Pins; Body 30 x 40 mm (Dia.xH typ); Pin Spacing 10 mm (typ))
simulation model CAP (Capacitor)
signal-integrity model EYN07BB515F02
pins: 1, 2
1 alternate drawing of the same symbol

## EYN07BB533D02
designator C?
Aluminum Electrolytic Capacitor, Power Capacitor Style EYN, Snap-in 6mm Solder Pins: 33000uF, 16V; PCB_Layout: Complies with Manufacturer's Recommendation.; DrillSize: Nominal, Complies with Manufacturer's Recommendation.; Published: 19-Mar-2004; DatasheetDocument: 4-Feb-2002; PackageReference: CAPPRS10-30X40; Publisher: Altium Limited; ComponentLink1Description: Manufacturer Link; ComponentLink1URL: http://www.vishay.com/; ComponentLink2Description: Datasheet; ComponentLink2URL: http://www.vishay.com/docs/25137/eyn.pdf; Value: 33000uF
footprint CAPPRS10-30X40 (Capacitor, Electrolytic, Radial, Snap-In Pins; Body 30 x 40 mm (Dia.xH typ); Pin Spacing 10 mm (typ))
simulation model CAP (Capacitor)
signal-integrity model EYN07BB533D02
pins: 1, 2
1 alternate drawing of the same symbol

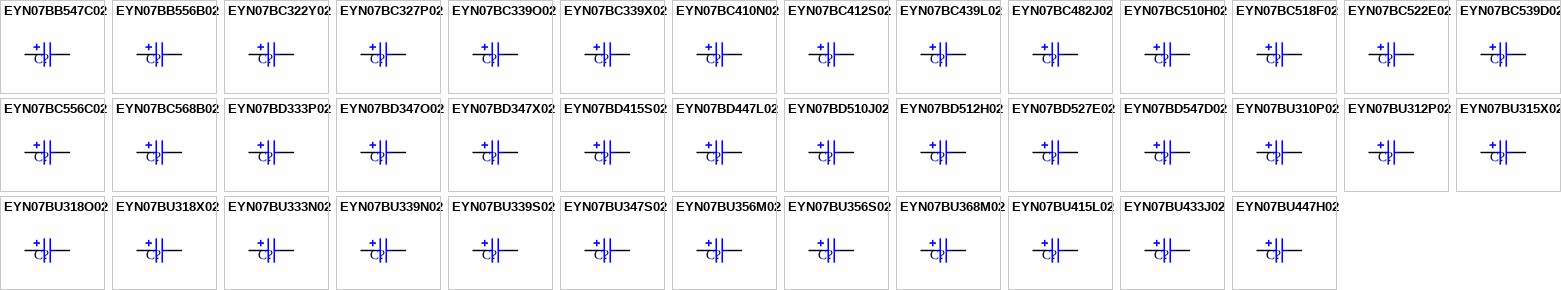
[diagram p16: symbols EYN07BB547C02 to EYN07BU447H02]

## EYN07BB547C02
designator C?
Aluminum Electrolytic Capacitor, Power Capacitor Style EYN, Snap-in 6mm Solder Pins: 47000uF, 10V; PCB_Layout: Complies with Manufacturer's Recommendation.; DrillSize: Nominal, Complies with Manufacturer's Recommendation.; Published: 19-Mar-2004; DatasheetDocument: 4-Feb-2002; PackageReference: CAPPRS10-30X40; Publisher: Altium Limited; ComponentLink1Description: Manufacturer Link; ComponentLink1URL: http://www.vishay.com/; ComponentLink2Description: Datasheet; ComponentLink2URL: http://www.vishay.com/docs/25137/eyn.pdf; Value: 47000uF
footprint CAPPRS10-30X40 (Capacitor, Electrolytic, Radial, Snap-In Pins; Body 30 x 40 mm (Dia.xH typ); Pin Spacing 10 mm (typ))
simulation model CAP (Capacitor)
signal-integrity model EYN07BB547C02
pins: 1, 2
1 alternate drawing of the same symbol

## EYN07BB556B02
designator C?
Aluminum Electrolytic Capacitor, Power Capacitor Style EYN, Snap-in 6mm Solder Pins: 56000uF, 6.3V; PCB_Layout: Complies with Manufacturer's Recommendation.; DrillSize: Nominal, Complies with Manufacturer's Recommendation.; Published: 19-Mar-2004; DatasheetDocument: 4-Feb-2002; PackageReference: CAPPRS10-30X40; Publisher: Altium Limited; ComponentLink1Description: Manufacturer Link; ComponentLink1URL: http://www.vishay.com/; ComponentLink2Description: Datasheet; ComponentLink2URL: http://www.vishay.com/docs/25137/eyn.pdf; Value: 56000uF
footprint CAPPRS10-30X40 (Capacitor, Electrolytic, Radial, Snap-In Pins; Body 30 x 40 mm (Dia.xH typ); Pin Spacing 10 mm (typ))
simulation model CAP (Capacitor)
signal-integrity model EYN07BB556B02
pins: 1, 2
1 alternate drawing of the same symbol

## EYN07BC322Y02
designator C?
Aluminum Electrolytic Capacitor, Power Capacitor Style EYN, Snap-in 6mm Solder Pins: 220uF, 500V; PCB_Layout: Complies with Manufacturer's Recommendation.; DrillSize: Nominal, Complies with Manufacturer's Recommendation.; Published: 19-Mar-2004; DatasheetDocument: 4-Feb-2002; PackageReference: CAPPRS10-30X45; Publisher: Altium Limited; ComponentLink1Description: Manufacturer Link; ComponentLink1URL: http://www.vishay.com/; ComponentLink2Description: Datasheet; ComponentLink2URL: http://www.vishay.com/docs/25137/eyn.pdf; Value: 220uF
footprint CAPPRS10-30X45 (Capacitor, Electrolytic, Radial, Snap-In Pins; Body 30 x 45 mm (Dia.xH typ); Pin Spacing 10 mm (typ))
simulation model CAP (Capacitor)
signal-integrity model EYN07BC322Y02
pins: 1, 2
1 alternate drawing of the same symbol

## EYN07BC327P02
designator C?
Aluminum Electrolytic Capacitor, Power Capacitor Style EYN, Snap-in 6mm Solder Pins: 270uF, 450V; PCB_Layout: Complies with Manufacturer's Recommendation.; DrillSize: Nominal, Complies with Manufacturer's Recommendation.; Published: 19-Mar-2004; DatasheetDocument: 4-Feb-2002; PackageReference: CAPPRS10-30X45; Publisher: Altium Limited; ComponentLink1Description: Manufacturer Link; ComponentLink1URL: http://www.vishay.com/; ComponentLink2Description: Datasheet; ComponentLink2URL: http://www.vishay.com/docs/25137/eyn.pdf; Value: 270uF
footprint CAPPRS10-30X45 (Capacitor, Electrolytic, Radial, Snap-In Pins; Body 30 x 45 mm (Dia.xH typ); Pin Spacing 10 mm (typ))
simulation model CAP (Capacitor)
signal-integrity model EYN07BC327P02
pins: 1, 2
1 alternate drawing of the same symbol

## EYN07BC339O02
designator C?
Aluminum Electrolytic Capacitor, Power Capacitor Style EYN, Snap-in 6mm Solder Pins: 390uF, 350V; PCB_Layout: Complies with Manufacturer's Recommendation.; DrillSize: Nominal, Complies with Manufacturer's Recommendation.; Published: 19-Mar-2004; DatasheetDocument: 4-Feb-2002; PackageReference: CAPPRS10-30X45; Publisher: Altium Limited; ComponentLink1Description: Manufacturer Link; ComponentLink1URL: http://www.vishay.com/; ComponentLink2Description: Datasheet; ComponentLink2URL: http://www.vishay.com/docs/25137/eyn.pdf; Value: 390uF
footprint CAPPRS10-30X45 (Capacitor, Electrolytic, Radial, Snap-In Pins; Body 30 x 45 mm (Dia.xH typ); Pin Spacing 10 mm (typ))
simulation model CAP (Capacitor)
signal-integrity model EYN07BC339O02
pins: 1, 2
1 alternate drawing of the same symbol

## EYN07BC339X02
designator C?
Aluminum Electrolytic Capacitor, Power Capacitor Style EYN, Snap-in 6mm Solder Pins: 390uF, 400V; PCB_Layout: Complies with Manufacturer's Recommendation.; DrillSize: Nominal, Complies with Manufacturer's Recommendation.; Published: 19-Mar-2004; DatasheetDocument: 4-Feb-2002; PackageReference: CAPPRS10-30X45; Publisher: Altium Limited; ComponentLink1Description: Manufacturer Link; ComponentLink1URL: http://www.vishay.com/; ComponentLink2Description: Datasheet; ComponentLink2URL: http://www.vishay.com/docs/25137/eyn.pdf; Value: 390uF
footprint CAPPRS10-30X45 (Capacitor, Electrolytic, Radial, Snap-In Pins; Body 30 x 45 mm (Dia.xH typ); Pin Spacing 10 mm (typ))
simulation model CAP (Capacitor)
signal-integrity model EYN07BC339X02
pins: 1, 2
1 alternate drawing of the same symbol

## EYN07BC410N02
designator C?
Aluminum Electrolytic Capacitor, Power Capacitor Style EYN, Snap-in 6mm Solder Pins: 1000uF, 250V; PCB_Layout: Complies with Manufacturer's Recommendation.; DrillSize: Nominal, Complies with Manufacturer's Recommendation.; Published: 19-Mar-2004; DatasheetDocument: 4-Feb-2002; PackageReference: CAPPRS10-30X45; Publisher: Altium Limited; ComponentLink1Description: Manufacturer Link; ComponentLink1URL: http://www.vishay.com/; ComponentLink2Description: Datasheet; ComponentLink2URL: http://www.vishay.com/docs/25137/eyn.pdf; Value: 1000uF
footprint CAPPRS10-30X45 (Capacitor, Electrolytic, Radial, Snap-In Pins; Body 30 x 45 mm (Dia.xH typ); Pin Spacing 10 mm (typ))
simulation model CAP (Capacitor)
signal-integrity model EYN07BC410N02
pins: 1, 2
1 alternate drawing of the same symbol

## EYN07BC412S02
designator C?
Aluminum Electrolytic Capacitor, Power Capacitor Style EYN, Snap-in 6mm Solder Pins: 1200uF, 200V; PCB_Layout: Complies with Manufacturer's Recommendation.; DrillSize: Nominal, Complies with Manufacturer's Recommendation.; Published: 19-Mar-2004; DatasheetDocument: 4-Feb-2002; PackageReference: CAPPRS10-30X45; Publisher: Altium Limited; ComponentLink1Description: Manufacturer Link; ComponentLink1URL: http://www.vishay.com/; ComponentLink2Description: Datasheet; ComponentLink2URL: http://www.vishay.com/docs/25137/eyn.pdf; Value: 1200uF
footprint CAPPRS10-30X45 (Capacitor, Electrolytic, Radial, Snap-In Pins; Body 30 x 45 mm (Dia.xH typ); Pin Spacing 10 mm (typ))
simulation model CAP (Capacitor)
signal-integrity model EYN07BC412S02
pins: 1, 2
1 alternate drawing of the same symbol

## EYN07BC439L02
designator C?
Aluminum Electrolytic Capacitor, Power Capacitor Style EYN, Snap-in 6mm Solder Pins: 3900uF, 100V; PCB_Layout: Complies with Manufacturer's Recommendation.; DrillSize: Nominal, Complies with Manufacturer's Recommendation.; Published: 19-Mar-2004; DatasheetDocument: 4-Feb-2002; PackageReference: CAPPRS10-30X45; Publisher: Altium Limited; ComponentLink1Description: Manufacturer Link; ComponentLink1URL: http://www.vishay.com/; ComponentLink2Description: Datasheet; ComponentLink2URL: http://www.vishay.com/docs/25137/eyn.pdf; Value: 3900uF
footprint CAPPRS10-30X45 (Capacitor, Electrolytic, Radial, Snap-In Pins; Body 30 x 45 mm (Dia.xH typ); Pin Spacing 10 mm (typ))
simulation model CAP (Capacitor)
signal-integrity model EYN07BC439L02
pins: 1, 2
1 alternate drawing of the same symbol

## EYN07BC482J02
designator C?
Aluminum Electrolytic Capacitor, Power Capacitor Style EYN, Snap-in 6mm Solder Pins: 8200uF, 63V; PCB_Layout: Complies with Manufacturer's Recommendation.; DrillSize: Nominal, Complies with Manufacturer's Recommendation.; Published: 19-Mar-2004; DatasheetDocument: 4-Feb-2002; PackageReference: CAPPRS10-30X45; Publisher: Altium Limited; ComponentLink1Description: Manufacturer Link; ComponentLink1URL: http://www.vishay.com/; ComponentLink2Description: Datasheet; ComponentLink2URL: http://www.vishay.com/docs/25137/eyn.pdf; Value: 8200uF
footprint CAPPRS10-30X45 (Capacitor, Electrolytic, Radial, Snap-In Pins; Body 30 x 45 mm (Dia.xH typ); Pin Spacing 10 mm (typ))
simulation model CAP (Capacitor)
signal-integrity model EYN07BC482J02
pins: 1, 2
1 alternate drawing of the same symbol

## EYN07BC510H02
designator C?
Aluminum Electrolytic Capacitor, Power Capacitor Style EYN, Snap-in 6mm Solder Pins: 10000uF, 50V; PCB_Layout: Complies with Manufacturer's Recommendation.; DrillSize: Nominal, Complies with Manufacturer's Recommendation.; Published: 19-Mar-2004; DatasheetDocument: 4-Feb-2002; PackageReference: CAPPRS10-30X45; Publisher: Altium Limited; ComponentLink1Description: Manufacturer Link; ComponentLink1URL: http://www.vishay.com/; ComponentLink2Description: Datasheet; ComponentLink2URL: http://www.vishay.com/docs/25137/eyn.pdf; Value: 10000uF
footprint CAPPRS10-30X45 (Capacitor, Electrolytic, Radial, Snap-In Pins; Body 30 x 45 mm (Dia.xH typ); Pin Spacing 10 mm (typ))
simulation model CAP (Capacitor)
signal-integrity model EYN07BC510H02
pins: 1, 2
1 alternate drawing of the same symbol

## EYN07BC518F02
designator C?
Aluminum Electrolytic Capacitor, Power Capacitor Style EYN, Snap-in 6mm Solder Pins: 18000uF, 35V; PCB_Layout: Complies with Manufacturer's Recommendation.; DrillSize: Nominal, Complies with Manufacturer's Recommendation.; Published: 19-Mar-2004; DatasheetDocument: 4-Feb-2002; PackageReference: CAPPRS10-30X45; Publisher: Altium Limited; ComponentLink1Description: Manufacturer Link; ComponentLink1URL: http://www.vishay.com/; ComponentLink2Description: Datasheet; ComponentLink2URL: http://www.vishay.com/docs/25137/eyn.pdf; Value: 18000uF
footprint CAPPRS10-30X45 (Capacitor, Electrolytic, Radial, Snap-In Pins; Body 30 x 45 mm (Dia.xH typ); Pin Spacing 10 mm (typ))
simulation model CAP (Capacitor)
signal-integrity model EYN07BC518F02
pins: 1, 2
1 alternate drawing of the same symbol

## EYN07BC522E02
designator C?
Aluminum Electrolytic Capacitor, Power Capacitor Style EYN, Snap-in 6mm Solder Pins: 22000uF, 25V; PCB_Layout: Complies with Manufacturer's Recommendation.; DrillSize: Nominal, Complies with Manufacturer's Recommendation.; Published: 19-Mar-2004; DatasheetDocument: 4-Feb-2002; PackageReference: CAPPRS10-30X45; Publisher: Altium Limited; ComponentLink1Description: Manufacturer Link; ComponentLink1URL: http://www.vishay.com/; ComponentLink2Description: Datasheet; ComponentLink2URL: http://www.vishay.com/docs/25137/eyn.pdf; Value: 22000uF
footprint CAPPRS10-30X45 (Capacitor, Electrolytic, Radial, Snap-In Pins; Body 30 x 45 mm (Dia.xH typ); Pin Spacing 10 mm (typ))
simulation model CAP (Capacitor)
signal-integrity model EYN07BC522E02
pins: 1, 2
1 alternate drawing of the same symbol

## EYN07BC539D02
designator C?
Aluminum Electrolytic Capacitor, Power Capacitor Style EYN, Snap-in 6mm Solder Pins: 39000uF, 16V; PCB_Layout: Complies with Manufacturer's Recommendation.; DrillSize: Nominal, Complies with Manufacturer's Recommendation.; Published: 19-Mar-2004; DatasheetDocument: 4-Feb-2002; PackageReference: CAPPRS10-30X45; Publisher: Altium Limited; ComponentLink1Description: Manufacturer Link; ComponentLink1URL: http://www.vishay.com/; ComponentLink2Description: Datasheet; ComponentLink2URL: http://www.vishay.com/docs/25137/eyn.pdf; Value: 39000uF
footprint CAPPRS10-30X45 (Capacitor, Electrolytic, Radial, Snap-In Pins; Body 30 x 45 mm (Dia.xH typ); Pin Spacing 10 mm (typ))
simulation model CAP (Capacitor)
signal-integrity model EYN07BC539D02
pins: 1, 2
1 alternate drawing of the same symbol

## EYN07BC556C02
designator C?
Aluminum Electrolytic Capacitor, Power Capacitor Style EYN, Snap-in 6mm Solder Pins: 56000uF, 10V; PCB_Layout: Complies with Manufacturer's Recommendation.; DrillSize: Nominal, Complies with Manufacturer's Recommendation.; Published: 19-Mar-2004; DatasheetDocument: 4-Feb-2002; PackageReference: CAPPRS10-30X45; Publisher: Altium Limited; ComponentLink1Description: Manufacturer Link; ComponentLink1URL: http://www.vishay.com/; ComponentLink2Description: Datasheet; ComponentLink2URL: http://www.vishay.com/docs/25137/eyn.pdf; Value: 56000uF
footprint CAPPRS10-30X45 (Capacitor, Electrolytic, Radial, Snap-In Pins; Body 30 x 45 mm (Dia.xH typ); Pin Spacing 10 mm (typ))
simulation model CAP (Capacitor)
signal-integrity model EYN07BC556C02
pins: 1, 2
1 alternate drawing of the same symbol

## EYN07BC568B02
designator C?
Aluminum Electrolytic Capacitor, Power Capacitor Style EYN, Snap-in 6mm Solder Pins: 68000uF, 6.3V; PCB_Layout: Complies with Manufacturer's Recommendation.; DrillSize: Nominal, Complies with Manufacturer's Recommendation.; Published: 19-Mar-2004; DatasheetDocument: 4-Feb-2002; PackageReference: CAPPRS10-30X45; Publisher: Altium Limited; ComponentLink1Description: Manufacturer Link; ComponentLink1URL: http://www.vishay.com/; ComponentLink2Description: Datasheet; ComponentLink2URL: http://www.vishay.com/docs/25137/eyn.pdf; Value: 68000uF
footprint CAPPRS10-30X45 (Capacitor, Electrolytic, Radial, Snap-In Pins; Body 30 x 45 mm (Dia.xH typ); Pin Spacing 10 mm (typ))
simulation model CAP (Capacitor)
signal-integrity model EYN07BC568B02
pins: 1, 2
1 alternate drawing of the same symbol

## EYN07BD333P02
designator C?
Aluminum Electrolytic Capacitor, Power Capacitor Style EYN, Snap-in 6mm Solder Pins: 330uF, 450V; PCB_Layout: Complies with Manufacturer's Recommendation.; DrillSize: Nominal, Complies with Manufacturer's Recommendation.; Published: 19-Mar-2004; DatasheetDocument: 4-Feb-2002; PackageReference: CAPPRS10-30X50; Publisher: Altium Limited; ComponentLink1Description: Manufacturer Link; ComponentLink1URL: http://www.vishay.com/; ComponentLink2Description: Datasheet; ComponentLink2URL: http://www.vishay.com/docs/25137/eyn.pdf; Value: 330uF
footprint CAPPRS10-30X50 (Capacitor, Electrolytic, Radial, Snap-In Pins; Body 30 x 50 mm (Dia.xH typ); Pin Spacing 10 mm (typ))
simulation model CAP (Capacitor)
signal-integrity model EYN07BD333P02
pins: 1, 2
1 alternate drawing of the same symbol

## EYN07BD347O02
designator C?
Aluminum Electrolytic Capacitor, Power Capacitor Style EYN, Snap-in 6mm Solder Pins: 470uF, 350V; PCB_Layout: Complies with Manufacturer's Recommendation.; DrillSize: Nominal, Complies with Manufacturer's Recommendation.; Published: 19-Mar-2004; DatasheetDocument: 4-Feb-2002; PackageReference: CAPPRS10-30X50; Publisher: Altium Limited; ComponentLink1Description: Manufacturer Link; ComponentLink1URL: http://www.vishay.com/; ComponentLink2Description: Datasheet; ComponentLink2URL: http://www.vishay.com/docs/25137/eyn.pdf; Value: 470uF
footprint CAPPRS10-30X50 (Capacitor, Electrolytic, Radial, Snap-In Pins; Body 30 x 50 mm (Dia.xH typ); Pin Spacing 10 mm (typ))
simulation model CAP (Capacitor)
signal-integrity model EYN07BD347O02
pins: 1, 2
1 alternate drawing of the same symbol

## EYN07BD347X02
designator C?
Aluminum Electrolytic Capacitor, Power Capacitor Style EYN, Snap-in 6mm Solder Pins: 470uF, 400V; PCB_Layout: Complies with Manufacturer's Recommendation.; DrillSize: Nominal, Complies with Manufacturer's Recommendation.; Published: 19-Mar-2004; DatasheetDocument: 4-Feb-2002; PackageReference: CAPPRS10-30X50; Publisher: Altium Limited; ComponentLink1Description: Manufacturer Link; ComponentLink1URL: http://www.vishay.com/; ComponentLink2Description: Datasheet; ComponentLink2URL: http://www.vishay.com/docs/25137/eyn.pdf; Value: 470uF
footprint CAPPRS10-30X50 (Capacitor, Electrolytic, Radial, Snap-In Pins; Body 30 x 50 mm (Dia.xH typ); Pin Spacing 10 mm (typ))
simulation model CAP (Capacitor)
signal-integrity model EYN07BD347X02
pins: 1, 2
1 alternate drawing of the same symbol

## EYN07BD415S02
designator C?
Aluminum Electrolytic Capacitor, Power Capacitor Style EYN, Snap-in 6mm Solder Pins: 1500uF, 200V; PCB_Layout: Complies with Manufacturer's Recommendation.; DrillSize: Nominal, Complies with Manufacturer's Recommendation.; Published: 19-Mar-2004; DatasheetDocument: 4-Feb-2002; PackageReference: CAPPRS10-30X50; Publisher: Altium Limited; ComponentLink1Description: Manufacturer Link; ComponentLink1URL: http://www.vishay.com/; ComponentLink2Description: Datasheet; ComponentLink2URL: http://www.vishay.com/docs/25137/eyn.pdf; Value: 1500uF
footprint CAPPRS10-30X50 (Capacitor, Electrolytic, Radial, Snap-In Pins; Body 30 x 50 mm (Dia.xH typ); Pin Spacing 10 mm (typ))
simulation model CAP (Capacitor)
signal-integrity model EYN07BD415S02
pins: 1, 2
1 alternate drawing of the same symbol

## EYN07BD447L02
designator C?
Aluminum Electrolytic Capacitor, Power Capacitor Style EYN, Snap-in 6mm Solder Pins: 4700uF, 100V; PCB_Layout: Complies with Manufacturer's Recommendation.; DrillSize: Nominal, Complies with Manufacturer's Recommendation.; Published: 19-Mar-2004; DatasheetDocument: 4-Feb-2002; PackageReference: CAPPRS10-30X50; Publisher: Altium Limited; ComponentLink1Description: Manufacturer Link; ComponentLink1URL: http://www.vishay.com/; ComponentLink2Description: Datasheet; ComponentLink2URL: http://www.vishay.com/docs/25137/eyn.pdf; Value: 4700uF
footprint CAPPRS10-30X50 (Capacitor, Electrolytic, Radial, Snap-In Pins; Body 30 x 50 mm (Dia.xH typ); Pin Spacing 10 mm (typ))
simulation model CAP (Capacitor)
signal-integrity model EYN07BD447L02
pins: 1, 2
1 alternate drawing of the same symbol